# EAGLE library part LSF0108 (library ds_ic_peripherals)
Automotive 8-Channel Multi-Voltage Level Translator
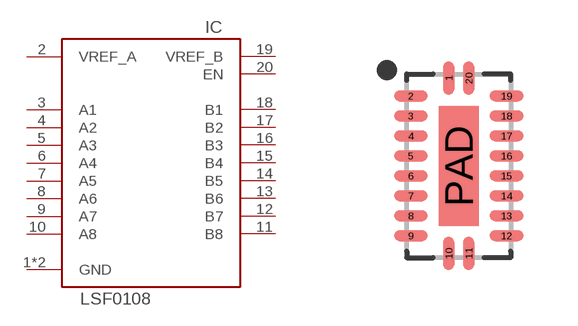
[diagram p46: symbol with the pads of VQFN20; footprint VQFN20]

Designator prefix IC

## LSF0108-Q1  [VQFN20]
1  GND  pwr
2  VREF_A  pwr
3  A1
4  A2
5  A3
6  A4
7  A5
8  A6
9  A7
10  A8
11  B8
12  B7
13  B6
14  B5
15  B4
16  B3
17  B2
18  B1
19  VREF_B  pwr
20  EN
PAD  GND  pwr

## Footprint VQFN20 (pad centres in mm)
20-QFN, 0.50 mm pitch, 4.50 X 2.50 X 1.00 mm body, 3.00 X 1.00 mm thermal pad 20-pin QFN package with 0.50 mm pitch with body size 4.50 X 2.50 X 1.00 mm and thermal pad size 3.00 X 1.00 mm
smd 0.27 x 0.838: 1 -0.25,2.196; 10 -0.25,-2.196; 11 0.25,-2.196; 20 0.25,2.196
smd 0.838 x 0.27: 2 -1.196,1.75; 3 -1.196,1.25; 4 -1.196,0.75; 5 -1.196,0.25; 6 -1.196,-0.25; 7 -1.196,-0.75; 8 -1.196,-1.25; 9 -1.196,-1.75; 12 1.196,-1.75; 13 1.196,-1.25; 14 1.196,-0.75; 15 1.196,-0.25; 16 1.196,0.25; 17 1.196,0.75; 18 1.196,1.25; 19 1.196,1.75
smd 1 x 3: PAD 0,0